# EAGLE library part GP4SF1109F2 (library mgvc)
GPS module GP4SF1109F2
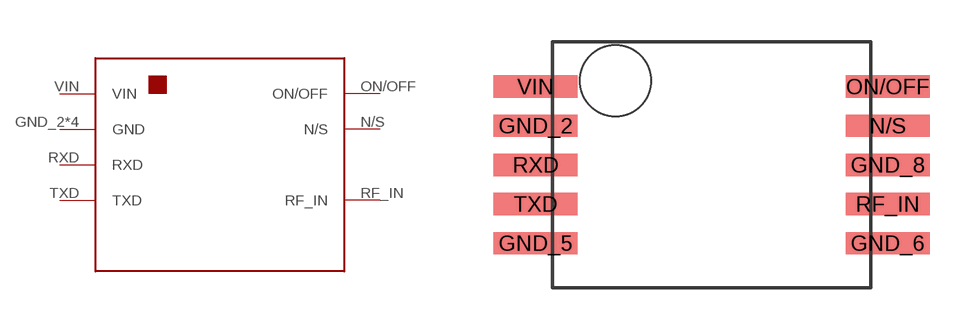
[diagram p1: symbol with the pads of GP4SF1109F2; footprint GP4SF1109F2]

Designator prefix -

## GP4SF1109F2  [GP4SF1109F2]
GND_2  GND
GND_5  GND
GND_6  GND
GND_8  GND
N/S  N/S
ON/OFF  ON/OFF
RF_IN  RF_IN
RXD  RXD
TXD  TXD
VIN  VIN

## Footprint GP4SF1109F2 (pad centres in mm)
GPS module GP4SF1109F2
smd 3 x 0.8: GND_2 -5.4,2.2; GND_5 -5.4,-2; GND_6 7.2,-2; GND_8 7.2,0.8; N/S 7.2,2.2; ON/OFF 7.2,3.6; RF_IN 7.2,-0.6; RXD -5.4,0.8; TXD -5.4,-0.6; VIN -5.4,3.6